# Altium schematic symbol library MC9S12XDP512(112).SchLib: 1 symbol
Pins are listed as number, name and electrical type; pins without a type are passive.

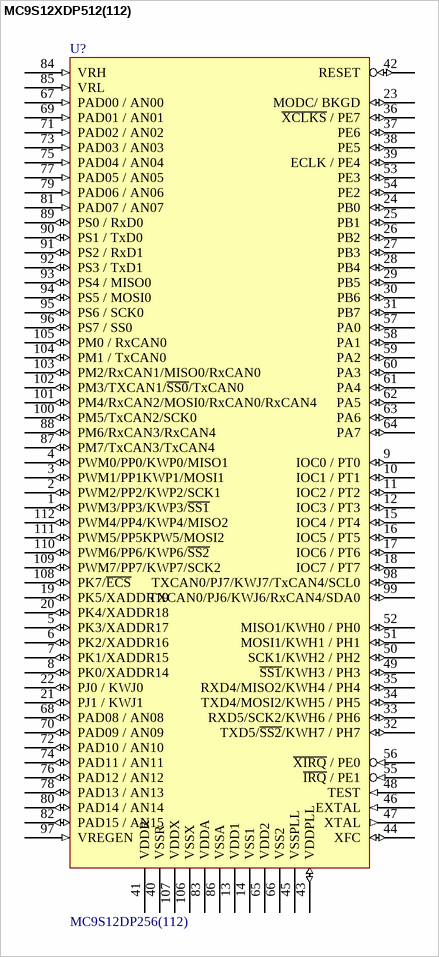
[diagram p0: symbol MC9S12XDP512(112)]

## MC9S12XDP512(112)
designator U?, comment MC9S12DP256(112)
16-Bit HC12 Microcontroller
footprint TQFP22X22-112
pins: 1 PWM3/PP3/KWP3/~{SS1} (io), 2 PWM2/PP2/KWP2/SCK1 (io), 3 PWM1/PP1KWP1/MOSI1 (io), 4 PWM0/PP0/KWP0/MISO1 (io), 5 PK3/XADDR17 (io), 6 PK2/XADDR16 (io), 7 PK1/XADDR15 (io), 8 PK0/XADDR14 (io), 9 IOC0 / PT0 (io), 10 IOC1 / PT1 (io), 11 IOC2 / PT2 (io), 12 IOC3 / PT3 (io), 13 VDD1 (power) hidden to VDD1, 14 VSS1 (power) hidden to VSS1, 15 IOC4 / PT4 (io), 16 IOC5 / PT5 (io), 17 IOC6 / PT6 (io), 18 IOC7 / PT7 (io), 19 PK5/XADDR19 (io), 20 PK4/XADDR18 (io), 21 PJ1 / KWJ1 (io), 22 PJ0 / KWJ0 (io), 23 MODC/ BKGD (io), 24 PB0 (io), 25 PB1 (io), 26 PB2 (io), 27 PB3 (io), 28 PB4 (io), 29 PB5 (io), 30 PB6 (io), 31 PB7 (io), 32 TXD5/~{SS2}/KWH7 / PH7 (io), 33 RXD5/SCK2/KWH6 / PH6 (io), 34 TXD4/MOSI2/KWH5 / PH5 (io), 35 RXD4/MISO2/KWH4 / PH4 (io), 36 ~{XCLKS} / PE7 (io), 37 PE6 (io), 38 PE5 (io), 39 ECLK / PE4 (io), 40 VSSR (power) hidden to VSSR, 41 VDDR (power) hidden to VDDR, 42 RESET (io), 43 VDDPLL (io) hidden to VDDPLL, 44 XFC (io), 45 VSSPLL hidden to VSSPLL, 46 EXTAL (in), 47 XTAL (out), 48 TEST (in), 49 ~{SS1}/KWH3 / PH3 (io), 50 SCK1/KWH2 / PH2 (io), 51 MOSI1/KWH1 / PH1 (io), 52 MISO1/KWH0 / PH0 (io), 53 PE3 (io), 54 PE2 (io), 55 ~{IRQ} / PE1 (in), 56 ~{XIRQ} / PE0 (in), 57 PA0 (io), 58 PA1 (io), 59 PA2 (io), 60 PA3 (io), 61 PA4 (io), 62 PA5 (io), 63 PA6 (io), 64 PA7 (io), 65 VDD2 (power) hidden to VDD2, 66 VSS2 (power) hidden to VSS2, 67 PAD00 / AN00 (in), 68 PAD08 / AN08 (io), 69 PAD01 / AN01 (in), 70 PAD09 / AN09 (io), 71 PAD02 / AN02 (in), 72 PAD10 / AN10 (io), 73 PAD03 / AN03 (in), 74 PAD11 / AN11 (io), 75 PAD04 / AN04 (in), 76 PAD12 / AN12 (io), 77 PAD05 / AN05 (in), 78 PAD13 / AN13 (io), 79 PAD06 / AN06 (in), 80 PAD14 / AN14 (io), 81 PAD07 / AN07 (in), 82 PAD15 / AN15 (io), 83 VDDA (power) hidden to VDDA, 84 VRH (in), 85 VRL (in), 86 VSSA (power) hidden to VSSA, 87 PM7/TxCAN3/TxCAN4 (io), 88 PM6/RxCAN3/RxCAN4 (io), 89 PS0 / RxD0 (io), 90 PS1 / TxD0 (io), 91 PS2 / RxD1 (io), 92 PS3 / TxD1 (io), 93 PS4 / MISO0 (io), 94 PS5 / MOSI0 (io), 95 PS6 / SCK0 (io), 96 PS7 / SS0 (io), 97 VREGEN (in), 98 TXCAN0/PJ7/KWJ7/TxCAN4/SCL0 (io), 99 TXCAN0/PJ6/KWJ6/RxCAN4/SDA0 (io), 100 PM5/TxCAN2/SCK0 (io), 101 PM4/RxCAN2/MOSI0/RxCAN0/RxCAN4 (io), 102 PM3/TXCAN1/~{SS0}/TxCAN0 (io), 103 PM2/RxCAN1/MISO0/RxCAN0 (io), 104 PM1 / TxCAN0 (io), 105 PM0 / RxCAN0 (io), 106 VSSX (power) hidden to VSSX, 107 VDDX (power) hidden to VDDX, 108 PK7/~{ECS} (io), 109 PWM7/PP7/KWP7/SCK2 (io), 110 PWM6/PP6/KWP6/~{SS2} (io), 111 PWM5/PP5KPW5/MOSI2 (io), 112 PWM4/PP4/KWP4/MISO2 (io)
2 alternate drawings of the same symbol